# EAGLE library part 1432УД26 (library operational-amplifier)
АЕЯР.431100.280-14 ТУ 1432УД26У– широкополосный операционный усилитель с токовой обратной связью. Предназначен для при менения в приемных трактах устройств связи и РЛС, в системах автоматического контроля и регулирования, в системах обработки аналоговых и аналого-цифровых сигналов. Достоинства: ► Полоса пропускания 540 МГц ► Максимальная скорость нарастания выходного сигнала 900 В/мкс ► Ток потребления 13 мА ► Время установления 25 нс Основные электрические параметры, T=25 °C Параметры, единица измерения Условия Напряжение питания при двухполярном питании (Uп=±5В) при однополярном питании (Uп=5В) min тип max min тип max Максимальное выходное напряжения, В Uвх=Uп |±3,5| |±3,8| - от 1,15 до 3,85 2,8 Напряжение смещения нуля, мВ Uвх=0 - 4,0 5,0 - 4,0 6,0 Ток потребления, мА Uвх=0 - 10,2 13 - 9,0 12 Входной ток по неинвертирующему входу, мкА Uвх=0 - 8,0 12 - 8,0 12 Входной ток по инвертирующему входу, мкА Uвх=0 - 6,0 - 6,0 Коэффициент ослабления синфазных входных напряжений, дБ Uвх=2В 52 56 - 52 54 - Коэффициент преобразования, дБ Uвх=2В 200 - 180 - Верхняя граничная частота полосы пропускания, МГц Uвых=0,4В Rн=0,15 кОм Rн=1 кОм 250 540 - - 250 520 - - Максимальная скорость нарастания выходного напряжения, В/мкс Uвых=0,2В 900 - 550 665 - Время установления выходного напряжения (до уровня 0,1%), нс Uвых=1В - 25 - 25 Производитель: ОАО «НПП «ПУЛЬСАР», г. Москва.
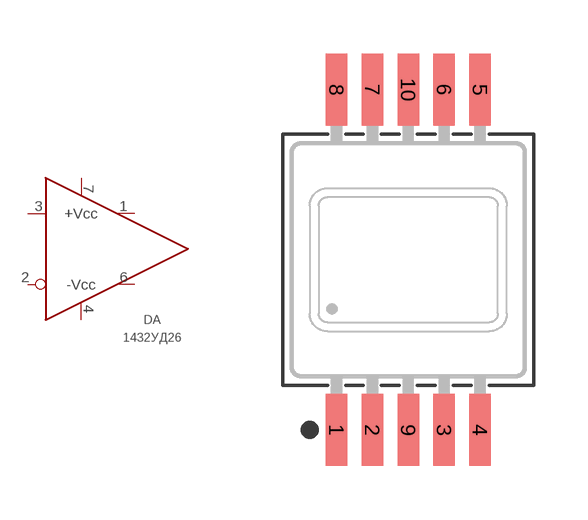
[diagram p7: symbol with the pads of H02.8-1B; footprint H02.8-1B]

Designator prefix DA

## 1432УД26У  [H02.8-1B]
1  OUT1  out
2  IN-  in
3  IN+  in
4  -VCC  pwr
6  OUT2  out
7  +VCC  pwr

## Footprint H02.8-1B (pad centres in mm)
smd 0.6 x 2: 1 -2,-4.75; 2 -1,-4.75; 3 1,-4.75; 4 2,-4.75; 5 2,4.75; 6 1,4.75; 7 -1,4.75; 8 -2,4.75; 9 0,-4.75; 10 0,4.75